# Altium schematic symbol library 74LVC1G32W5-7.SchLib: 1 symbol
Pins are listed as number, name and electrical type; pins without a type are passive.

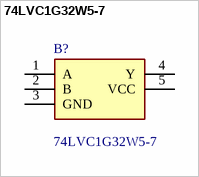
[diagram p0: symbol 74LVC1G32W5-7]

## 74LVC1G32W5-7
designator B?
DiodesZetex 74LVC1G32W5-7, OR 2 Input OR, 1.65  5.5 V, 5-Pin SOT-25; Manufacturer_Name: Diodes Incorporated; Geometry.Height: 1.4mm; Mouser Part Number: 621-74LVC1G32W5-7; Mouser Price/Stock: https://www.mouser.co.uk/ProductDetail/Diodes-Incorporated/74LVC1G32W5-7?qs=8Dv1RiiPiVIE4kcULefPZw%3D%3D; Manufacturer_Part_Number: 74LVC1G32W5-7; Datasheet Link: https://www.diodes.com//assets/Datasheets/74LVC1G32.pdf
footprint SOT95P285X140-5N
pins: 1 A, 2 B, 3 GND, 4 Y, 5 VCC